# EAGLE library part MRF89XAM8A (library MRF89XAM8A)
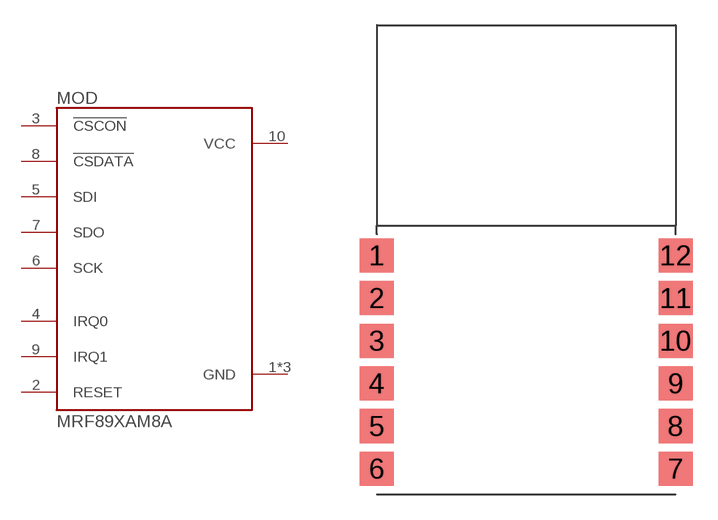
[diagram p0: symbol with the pads of MRF89XAM8A; footprint MRF89XAM8A]

Designator prefix MOD

## MRF89XAM8A  [MRF89XAM8A]
1  GND
2  RESET
3  !CSCON
4  IRQ0
5  SDI
6  SCK
7  SDO
8  !CSDATA
9  IRQ1
10  VCC
11  GND
12  GND

## Footprint MRF89XAM8A (pad centres in mm)
smd 2.032 x 2.032: 1 -8.89,6.35; 2 -8.89,3.81; 3 -8.89,1.27; 4 -8.89,-1.27; 5 -8.89,-3.81; 6 -8.89,-6.35; 7 8.89,-6.35; 8 8.89,-3.81; 9 8.89,-1.27; 10 8.89,1.27; 11 8.89,3.81; 12 8.89,6.35